# Altium integrated library bldc_controller.IntLib: 38 symbols
Pins are listed as number, name and electrical type; pins without a type are passive.

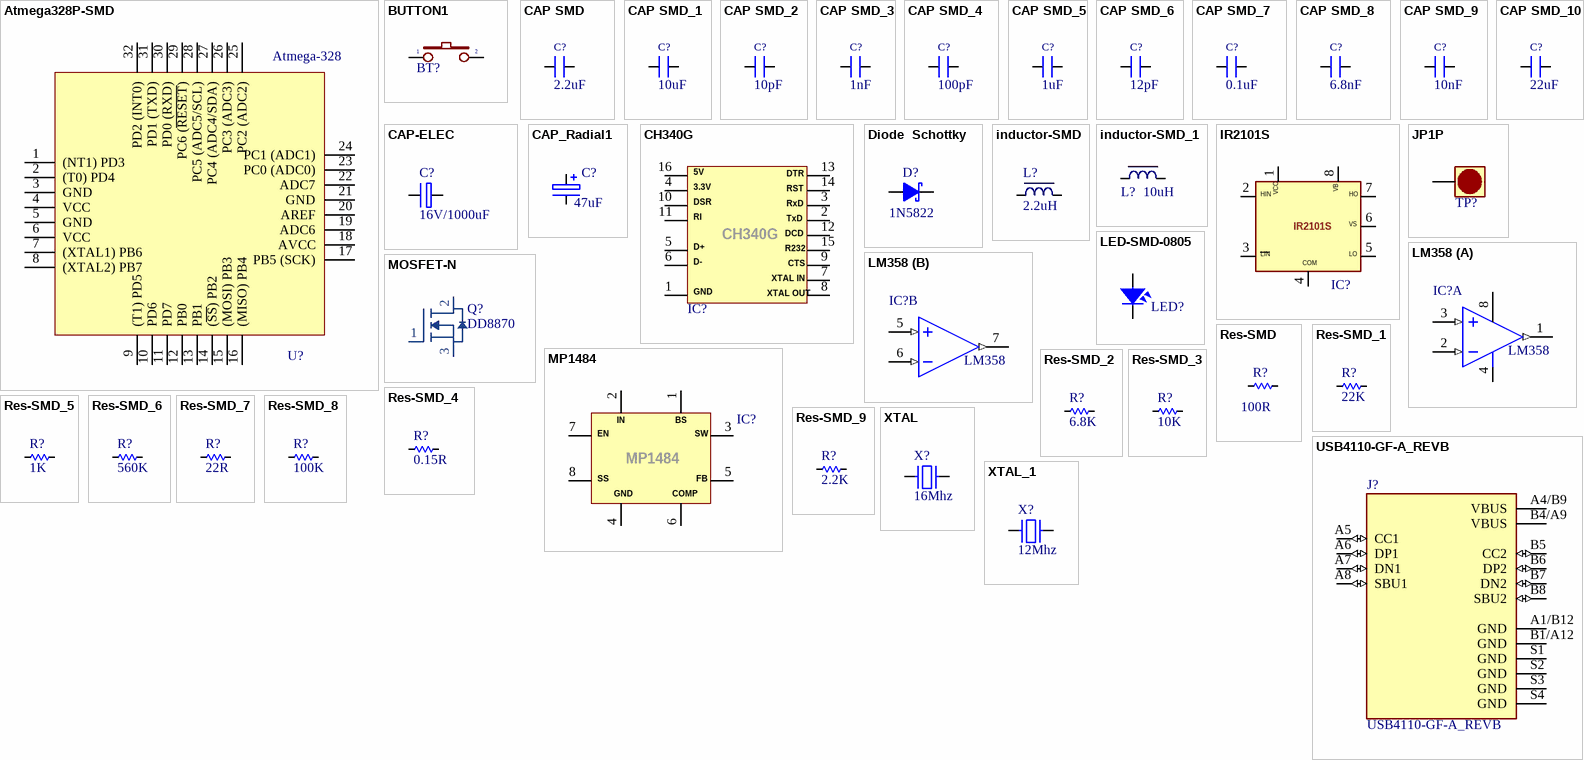
[diagram p0: symbols Atmega328P-SMD to XTAL_1]

## Atmega328P-SMD
designator U?, comment Atmega-328
Atmega328psmd
footprint TQFP32
pins: 1 (NT1) PD3, 2 (T0) PD4, 3 GND, 4 VCC, 5 GND, 6 VCC, 7 (XTAL1) PB6, 8 (XTAL2) PB7, 9 (T1) PD5, 10 PD6, 11 PD7, 12 PB0, 13 PB1, 14 (~{SS}) PB2, 15 (MOSI) PB3, 16 (MISO) PB4, 17 PB5 (SCK), 18 AVCC, 19 ADC6, 20 AREF, 21 GND, 22 ADC7, 23 PC0 (ADC0), 24 PC1 (ADC1), 25 PC2 (ADC2), 26 PC3 (ADC3), 27 PC4 (ADC4/SDA), 28 PC5 (ADC5/SCL), 29 PC6 (~{RESET}), 30 PD0 (RXD), 31 PD1 (TXD), 32 PD2 (INT0)

## BUTTON1
designator BT?  (value not drawn)
Value: 1N4007
footprint sw4-SMD
footprint SW4_SMD (SW SMD button 4pin, 250 x250 mil)
footprint SW4 (SW button 4pin, 250 x250 mil)
footprint SW-SMD - 3x4 (Switch SMD type)
footprint SW-SMD - 3x4x2 (Switch SMD type)
footprint SW-SMD - 3x6x4.3mm (Switch SMD type)
footprint SW-SMD-4.2x3.2x2.5
footprint SW-SMD - 3x6x2.5 (Switch SMD type)
footprint SW_6x6_H
footprint SW_TS24CA
footprint SW_TS24ZJ
footprint SW_THBM02
footprint SW_TS-A004
footprint SW4_SMD 6x6x3.1 (SW SMD button 4pin, 250 x250 mil)
footprint SW3 (SW button 3Pin, 4.5x4.5)
footprint push button 7X3.5X3.5
footprint SW_4.8x4.8x0.55mm
pins: 1, 2

## CAP SMD
designator C?, comment 2.2uF
CAP SMD; Value: 0,1uF/300V; Designed by: VanDungEvn
footprint SM-CAP-0805
footprint SM-Cap-1206
footprint SM-CAP-3225 (Chip Capacitor, Body 3.2x2.5mm, IPC Medium Density)
footprint SM-CAP-0402
footprint SM-CAP-0603
footprint CN-SMD-0402
footprint CN-SMD-0603
footprint CN-SMD-0805
footprint CN-SMD-1206
footprint CN-SMD-2520 (TOKO INDUCTOR DFE252012 SERIES)
footprint CN-SMD-3225 (Chip Capacitor, Body 3.2x2.5mm, IPC Medium Density)
footprint CN-SMD-1210
pins: 1, 2

## CAP SMD_1
designator C?, comment 10uF
CAP SMD; Value: 0,1uF/300V; Designed by: VanDungEvn
footprint SM-CAP-0805
footprint SM-Cap-1206
footprint SM-CAP-3225 (Chip Capacitor, Body 3.2x2.5mm, IPC Medium Density)
footprint SM-CAP-0402
footprint SM-CAP-0603
footprint CN-SMD-0402
footprint CN-SMD-0603
footprint CN-SMD-0805
footprint CN-SMD-1206
footprint CN-SMD-2520 (TOKO INDUCTOR DFE252012 SERIES)
footprint CN-SMD-3225 (Chip Capacitor, Body 3.2x2.5mm, IPC Medium Density)
footprint CN-SMD-1210
pins: 1, 2

## CAP SMD_2
designator C?, comment 10pF
CAP SMD; Value: 0,1uF/300V; Designed by: VanDungEvn
footprint SM-CAP-0805
footprint SM-Cap-1206
footprint SM-CAP-3225 (Chip Capacitor, Body 3.2x2.5mm, IPC Medium Density)
footprint SM-CAP-0402
footprint SM-CAP-0603
footprint CN-SMD-0402
footprint CN-SMD-0603
footprint CN-SMD-0805
footprint CN-SMD-1206
footprint CN-SMD-2520 (TOKO INDUCTOR DFE252012 SERIES)
footprint CN-SMD-3225 (Chip Capacitor, Body 3.2x2.5mm, IPC Medium Density)
footprint CN-SMD-1210
pins: 1, 2

## CAP SMD_3
designator C?, comment 1nF
CAP SMD; Value: 0,1uF/300V; Designed by: VanDungEvn
footprint SM-CAP-0805
footprint SM-Cap-1206
footprint SM-CAP-3225 (Chip Capacitor, Body 3.2x2.5mm, IPC Medium Density)
footprint SM-CAP-0402
footprint SM-CAP-0603
footprint CN-SMD-0402
footprint CN-SMD-0603
footprint CN-SMD-0805
footprint CN-SMD-1206
footprint CN-SMD-2520 (TOKO INDUCTOR DFE252012 SERIES)
footprint CN-SMD-3225 (Chip Capacitor, Body 3.2x2.5mm, IPC Medium Density)
footprint CN-SMD-1210
pins: 1, 2

## CAP SMD_4
designator C?, comment 100pF
CAP SMD; Value: 0,1uF/300V; Designed by: VanDungEvn
footprint SM-CAP-0805
footprint SM-Cap-1206
footprint SM-CAP-3225 (Chip Capacitor, Body 3.2x2.5mm, IPC Medium Density)
footprint SM-CAP-0402
footprint SM-CAP-0603
footprint CN-SMD-0402
footprint CN-SMD-0603
footprint CN-SMD-0805
footprint CN-SMD-1206
footprint CN-SMD-2520 (TOKO INDUCTOR DFE252012 SERIES)
footprint CN-SMD-3225 (Chip Capacitor, Body 3.2x2.5mm, IPC Medium Density)
footprint CN-SMD-1210
pins: 1, 2

## CAP SMD_5
designator C?, comment 1uF
CAP SMD; Value: 0,1uF/300V; Designed by: VanDungEvn
footprint SM-CAP-0805
footprint SM-Cap-1206
footprint SM-CAP-3225 (Chip Capacitor, Body 3.2x2.5mm, IPC Medium Density)
footprint SM-CAP-0402
footprint SM-CAP-0603
footprint CN-SMD-0402
footprint CN-SMD-0603
footprint CN-SMD-0805
footprint CN-SMD-1206
footprint CN-SMD-2520 (TOKO INDUCTOR DFE252012 SERIES)
footprint CN-SMD-3225 (Chip Capacitor, Body 3.2x2.5mm, IPC Medium Density)
footprint CN-SMD-1210
pins: 1, 2

## CAP SMD_6
designator C?, comment 12pF
CAP SMD; Value: 0,1uF/300V; Designed by: VanDungEvn
footprint SM-CAP-0805
footprint SM-Cap-1206
footprint SM-CAP-3225 (Chip Capacitor, Body 3.2x2.5mm, IPC Medium Density)
footprint SM-CAP-0402
footprint SM-CAP-0603
footprint CN-SMD-0402
footprint CN-SMD-0603
footprint CN-SMD-0805
footprint CN-SMD-1206
footprint CN-SMD-2520 (TOKO INDUCTOR DFE252012 SERIES)
footprint CN-SMD-3225 (Chip Capacitor, Body 3.2x2.5mm, IPC Medium Density)
footprint CN-SMD-1210
pins: 1, 2

## CAP SMD_7
designator C?, comment 0.1uF
CAP SMD; Value: 0,1uF/300V; Designed by: VanDungEvn
footprint SM-CAP-0805
footprint SM-Cap-1206
footprint SM-CAP-3225 (Chip Capacitor, Body 3.2x2.5mm, IPC Medium Density)
footprint SM-CAP-0402
footprint SM-CAP-0603
footprint CN-SMD-0402
footprint CN-SMD-0603
footprint CN-SMD-0805
footprint CN-SMD-1206
footprint CN-SMD-2520 (TOKO INDUCTOR DFE252012 SERIES)
footprint CN-SMD-3225 (Chip Capacitor, Body 3.2x2.5mm, IPC Medium Density)
footprint CN-SMD-1210
pins: 1, 2

## CAP SMD_8
designator C?, comment 6.8nF
CAP SMD; Value: 0,1uF/300V; Designed by: VanDungEvn
footprint SM-CAP-0805
footprint SM-Cap-1206
footprint SM-CAP-3225 (Chip Capacitor, Body 3.2x2.5mm, IPC Medium Density)
footprint SM-CAP-0402
footprint SM-CAP-0603
footprint CN-SMD-0402
footprint CN-SMD-0603
footprint CN-SMD-0805
footprint CN-SMD-1206
footprint CN-SMD-2520 (TOKO INDUCTOR DFE252012 SERIES)
footprint CN-SMD-3225 (Chip Capacitor, Body 3.2x2.5mm, IPC Medium Density)
footprint CN-SMD-1210
pins: 1, 2

## CAP SMD_9
designator C?, comment 10nF
CAP SMD; Value: 0,1uF/300V; Designed by: VanDungEvn
footprint SM-CAP-0805
footprint SM-Cap-1206
footprint SM-CAP-3225 (Chip Capacitor, Body 3.2x2.5mm, IPC Medium Density)
footprint SM-CAP-0402
footprint SM-CAP-0603
footprint CN-SMD-0402
footprint CN-SMD-0603
footprint CN-SMD-0805
footprint CN-SMD-1206
footprint CN-SMD-2520 (TOKO INDUCTOR DFE252012 SERIES)
footprint CN-SMD-3225 (Chip Capacitor, Body 3.2x2.5mm, IPC Medium Density)
footprint CN-SMD-1210
pins: 1, 2

## CAP SMD_10
designator C?, comment 22uF
CAP SMD; Value: 0,1uF/300V; Designed by: VanDungEvn
footprint SM-CAP-0805
footprint SM-Cap-1206
footprint SM-CAP-3225 (Chip Capacitor, Body 3.2x2.5mm, IPC Medium Density)
footprint SM-CAP-0402
footprint SM-CAP-0603
footprint CN-SMD-0402
footprint CN-SMD-0603
footprint CN-SMD-0805
footprint CN-SMD-1206
footprint CN-SMD-2520 (TOKO INDUCTOR DFE252012 SERIES)
footprint CN-SMD-3225 (Chip Capacitor, Body 3.2x2.5mm, IPC Medium Density)
footprint CN-SMD-1210
pins: 1, 2

## CAP-ELEC
designator C?, comment 16V/1000uF
footprint CAP-5MM
footprint CAP-2.54MM
footprint CAP-8MM
footprint CAP-8MM_HORIZONTAL
pins: 1, 2

## CAP_Radial1
designator C?, comment 47uF
CAP_Radial1
footprint CP1/2
footprint CP2/4 (Tu hoa 1000uF/16V/25V)
footprint CP3/7 (Tu hoa 4700uF/25V)
footprint CP4.5/19 (Tu hoa 10,000uF/63V)
footprint CP4/12 (Tu hoa 220uF/450V)
footprint CP4/8.5 (Tu hoa 4700uF/50V)
footprint cap_A_SMD 10uF/16V
footprint CAP_A_SMD 470
footprint cap_A_SMD 470uF/16V
footprint CP1/2.5 (Tu hoa 33 >100 uF,50V, 220uF/16V,25V)
footprint CP1.5/3.4 (Tu hoa 220->470uF,16V, 470uF/16V,25V)
pins: 1, 2
1 alternate drawing of the same symbol

## CH340G
designator IC?  (value not drawn)
footprint SOIC-16
pins: 1, 2, 3, 4, 5, 6, 7, 8, 9, 10, 11, 12, 13, 14, 15, 16
text: 5V; DTR; 3.3V; RST; DSR; RxD; RI; TxD; DCD; D+; R232; D-; CTS; XTAL IN; GND; XTAL OUT

## Diode  Schottky
designator D?, comment 1N5822
Diode  Schottky; Value: 1N4007
footprint D2A (Diode 2A, W 150mil, L 450mil); pin to pad A>1 K>2
footprint D2AN (Diode 2A, W 150mil, L 450mil); pin to pad A>1 K>2
footprint DIODE/POW/1A; pin to pad A>1 K>2
footprint DO41-1A (Diode 1A, W 100mil, L 350mil); pin to pad A>1 K>2
footprint DO-213AA
footprint DO-214AC(SMA); pin to pad A>1 K>2
footprint SOD-323 (diode T4-SOD232); pin to pad A>1 K>2
footprint SOD-123; pin to pad A>1 K>2
pins: A, K

## inductor-SMD
designator L?, comment 2.2uH
inductor-SMD; Value: 150 mH
footprint L-SMD-CD104R-10x4 (WE-PDA SMD Shielded Power Inductor, 7345)
footprint L-SMD-CD74R-7.3x4.5 (WE-PDA SMD Shielded Power Inductor, 7345)
footprint L-SMD-CDRH127-M-12x7 (WE-PDA SMD Shielded Power Inductor, 1210)
footprint IN-SMD-0402
footprint IN-SMD-0603
footprint IN-SMD-0805
footprint L-SMD-06030-7.4x6.6X3
footprint CD32
footprint CD43
footprint CD54
footprint IN-SMD-2010
footprint IN-SMD-1210
footprint IN-SMD-1206
footprint IN-SMD-0302
footprint CD32 - type 2
pins: 1, 2

## inductor-SMD_1
designator L?, comment 10uH
inductor-SMD; Value: 150 mH
footprint L-SMD-CD104R-10x4 (WE-PDA SMD Shielded Power Inductor, 7345)
footprint L-SMD-CD74R-7.3x4.5 (WE-PDA SMD Shielded Power Inductor, 7345)
footprint L-SMD-CDRH127-M-12x7 (WE-PDA SMD Shielded Power Inductor, 1210)
footprint IN-SMD-0402
footprint IN-SMD-0603
footprint IN-SMD-0805
footprint L-SMD-06030-7.4x6.6X3
footprint CD32
footprint CD43
footprint CD54
footprint IN-SMD-2010
footprint IN-SMD-1210
footprint IN-SMD-1206
footprint IN-SMD-0302
footprint CD32 - type 2
pins: 1, 2

## IR2101S
designator IC?  (value not drawn)
footprint SOIC-8
pins: 1, 2, 3, 4, 5, 6, 7, 8
text: VB; HIN; VCC; HO; VS; LIN; LO; COM

## JP1P
designator TP?  (value not drawn)
footprint PW-JP
pins: 1

## LED-SMD-0805
designator LED?, comment LED SMD  (value not drawn)
footprint SM-LED-0805-Blue
footprint SM-LED-0805-Green
footprint SM-LED-0805-Orange
footprint SM-LED-0805-Red
footprint SM-LED-0805-Yellow
pins: 1, 2

## LM358
designator IC?
Low-Power Dual Operational Amplifier; Value: LM358
footprint DIP8
footprint SO8
part A pins: 1 OUT (out), 2 IN- (in), 3 IN+ (in), 4 -V, 8 +V
part B pins: 5 IN+ (in), 6 IN- (in), 7 OUT (out)

## MOSFET-N
designator Q?, comment DD8870
MOSFET N chane
footprint SOT23-3
footprint TO-252
pins: 1, 2, 3

## MP1484
designator IC?  (value not drawn)
3A, 18V, 340KHz Synchronous Rectified / Step-Down Converter
footprint SOIC-8
pins: 1, 2, 3, 4, 5, 6, 7, 8
text: IN; BS; EN; SW; SS; FB; GND; COMP

## Res-SMD
designator R?, comment 100R
Resistor; Manufacturer: Generic Components; Class: Passive; Published: 08/06/2000; Publisher: Altium Hobart Technology Centre
footprint RES-SMD-0101
footprint RES-SMD-0201
footprint RES-SMD-0603
footprint RES-SMD-0805
footprint RES-SMD-1206
footprint RES-SMD-1210 (Chip Capacitor, Body 3.2x2.5mm, IPC Medium Density)
footprint RES-SMD-1812 (Chip Capacitor, Body 3.2x2.5mm, IPC Medium Density)
footprint RES-SMD-2010 (Chip Capacitor, Body 3.2x2.5mm, IPC Medium Density)
footprint RES-SMD-2512 (Chip Capacitor, Body 3.2x2.5mm, IPC Medium Density)
footprint RES-SMD-0402
pins: 1, 2

## Res-SMD_1
designator R?, comment 22K
Resistor; Manufacturer: Generic Components; Class: Passive; Published: 08/06/2000; Publisher: Altium Hobart Technology Centre
footprint RES-SMD-0101
footprint RES-SMD-0201
footprint RES-SMD-0603
footprint RES-SMD-0805
footprint RES-SMD-1206
footprint RES-SMD-1210 (Chip Capacitor, Body 3.2x2.5mm, IPC Medium Density)
footprint RES-SMD-1812 (Chip Capacitor, Body 3.2x2.5mm, IPC Medium Density)
footprint RES-SMD-2010 (Chip Capacitor, Body 3.2x2.5mm, IPC Medium Density)
footprint RES-SMD-2512 (Chip Capacitor, Body 3.2x2.5mm, IPC Medium Density)
footprint RES-SMD-0402
pins: 1, 2

## Res-SMD_2
designator R?, comment 6.8K
Resistor; Manufacturer: Generic Components; Class: Passive; Published: 08/06/2000; Publisher: Altium Hobart Technology Centre
footprint RES-SMD-0101
footprint RES-SMD-0201
footprint RES-SMD-0603
footprint RES-SMD-0805
footprint RES-SMD-1206
footprint RES-SMD-1210 (Chip Capacitor, Body 3.2x2.5mm, IPC Medium Density)
footprint RES-SMD-1812 (Chip Capacitor, Body 3.2x2.5mm, IPC Medium Density)
footprint RES-SMD-2010 (Chip Capacitor, Body 3.2x2.5mm, IPC Medium Density)
footprint RES-SMD-2512 (Chip Capacitor, Body 3.2x2.5mm, IPC Medium Density)
footprint RES-SMD-0402
pins: 1, 2

## Res-SMD_3
designator R?, comment 10K
Resistor; Manufacturer: Generic Components; Class: Passive; Published: 08/06/2000; Publisher: Altium Hobart Technology Centre
footprint RES-SMD-0101
footprint RES-SMD-0201
footprint RES-SMD-0603
footprint RES-SMD-0805
footprint RES-SMD-1206
footprint RES-SMD-1210 (Chip Capacitor, Body 3.2x2.5mm, IPC Medium Density)
footprint RES-SMD-1812 (Chip Capacitor, Body 3.2x2.5mm, IPC Medium Density)
footprint RES-SMD-2010 (Chip Capacitor, Body 3.2x2.5mm, IPC Medium Density)
footprint RES-SMD-2512 (Chip Capacitor, Body 3.2x2.5mm, IPC Medium Density)
footprint RES-SMD-0402
pins: 1, 2

## Res-SMD_4
designator R?, comment 0.15R
Resistor; Manufacturer: Generic Components; Class: Passive; Published: 08/06/2000; Publisher: Altium Hobart Technology Centre
footprint RES-SMD-0101
footprint RES-SMD-0201
footprint RES-SMD-0603
footprint RES-SMD-0805
footprint RES-SMD-1206
footprint RES-SMD-1210 (Chip Capacitor, Body 3.2x2.5mm, IPC Medium Density)
footprint RES-SMD-1812 (Chip Capacitor, Body 3.2x2.5mm, IPC Medium Density)
footprint RES-SMD-2010 (Chip Capacitor, Body 3.2x2.5mm, IPC Medium Density)
footprint RES-SMD-2512 (Chip Capacitor, Body 3.2x2.5mm, IPC Medium Density)
footprint RES-SMD-0402
pins: 1, 2

## Res-SMD_5
designator R?, comment 1K
Resistor; Manufacturer: Generic Components; Class: Passive; Published: 08/06/2000; Publisher: Altium Hobart Technology Centre
footprint RES-SMD-0101
footprint RES-SMD-0201
footprint RES-SMD-0603
footprint RES-SMD-0805
footprint RES-SMD-1206
footprint RES-SMD-1210 (Chip Capacitor, Body 3.2x2.5mm, IPC Medium Density)
footprint RES-SMD-1812 (Chip Capacitor, Body 3.2x2.5mm, IPC Medium Density)
footprint RES-SMD-2010 (Chip Capacitor, Body 3.2x2.5mm, IPC Medium Density)
footprint RES-SMD-2512 (Chip Capacitor, Body 3.2x2.5mm, IPC Medium Density)
footprint RES-SMD-0402
pins: 1, 2

## Res-SMD_6
designator R?, comment 560K
Resistor; Manufacturer: Generic Components; Class: Passive; Published: 08/06/2000; Publisher: Altium Hobart Technology Centre
footprint RES-SMD-0101
footprint RES-SMD-0201
footprint RES-SMD-0603
footprint RES-SMD-0805
footprint RES-SMD-1206
footprint RES-SMD-1210 (Chip Capacitor, Body 3.2x2.5mm, IPC Medium Density)
footprint RES-SMD-1812 (Chip Capacitor, Body 3.2x2.5mm, IPC Medium Density)
footprint RES-SMD-2010 (Chip Capacitor, Body 3.2x2.5mm, IPC Medium Density)
footprint RES-SMD-2512 (Chip Capacitor, Body 3.2x2.5mm, IPC Medium Density)
footprint RES-SMD-0402
pins: 1, 2

## Res-SMD_7
designator R?, comment 22R
Resistor; Manufacturer: Generic Components; Class: Passive; Published: 08/06/2000; Publisher: Altium Hobart Technology Centre
footprint RES-SMD-0101
footprint RES-SMD-0201
footprint RES-SMD-0603
footprint RES-SMD-0805
footprint RES-SMD-1206
footprint RES-SMD-1210 (Chip Capacitor, Body 3.2x2.5mm, IPC Medium Density)
footprint RES-SMD-1812 (Chip Capacitor, Body 3.2x2.5mm, IPC Medium Density)
footprint RES-SMD-2010 (Chip Capacitor, Body 3.2x2.5mm, IPC Medium Density)
footprint RES-SMD-2512 (Chip Capacitor, Body 3.2x2.5mm, IPC Medium Density)
footprint RES-SMD-0402
pins: 1, 2

## Res-SMD_8
designator R?, comment 100K
Resistor; Manufacturer: Generic Components; Class: Passive; Published: 08/06/2000; Publisher: Altium Hobart Technology Centre
footprint RES-SMD-0101
footprint RES-SMD-0201
footprint RES-SMD-0603
footprint RES-SMD-0805
footprint RES-SMD-1206
footprint RES-SMD-1210 (Chip Capacitor, Body 3.2x2.5mm, IPC Medium Density)
footprint RES-SMD-1812 (Chip Capacitor, Body 3.2x2.5mm, IPC Medium Density)
footprint RES-SMD-2010 (Chip Capacitor, Body 3.2x2.5mm, IPC Medium Density)
footprint RES-SMD-2512 (Chip Capacitor, Body 3.2x2.5mm, IPC Medium Density)
footprint RES-SMD-0402
pins: 1, 2

## Res-SMD_9
designator R?, comment 2.2K
Resistor; Manufacturer: Generic Components; Class: Passive; Published: 08/06/2000; Publisher: Altium Hobart Technology Centre
footprint RES-SMD-0101
footprint RES-SMD-0201
footprint RES-SMD-0603
footprint RES-SMD-0805
footprint RES-SMD-1206
footprint RES-SMD-1210 (Chip Capacitor, Body 3.2x2.5mm, IPC Medium Density)
footprint RES-SMD-1812 (Chip Capacitor, Body 3.2x2.5mm, IPC Medium Density)
footprint RES-SMD-2010 (Chip Capacitor, Body 3.2x2.5mm, IPC Medium Density)
footprint RES-SMD-2512 (Chip Capacitor, Body 3.2x2.5mm, IPC Medium Density)
footprint RES-SMD-0402
pins: 1, 2

## USB4110-GF-A_REVB
designator J?
USB-C (USB TYPE-C) USB 2.0 Receptacle Connector 24 (16+8 Dummy) Position Surface Mount, Right Angle; Through Hole; MF: GCT; Value: *; Price: None; Package: None; SnapEDA_Link: https://www.snapeda.com/parts/USB4110-GF-A/Global%20Connector%20Technology/view-part/4001167/?ref=snap; Availability: Warning; MP: USB4110-GF-A; Purchase-URL: https://pricing.snapeda.com/search/part/USB4110-GF-A/?ref=eda; Check_prices: https://www.snapeda.com/parts/USB4110-GF-A/Global%20Connector%20Technology/view-part/4001167/?ref=eda
footprint GCT_USB4110-GF-A_REVB
footprint GCT_USB4105-GF-A
pins: A1/B12 GND (power), A4/B9 VBUS (power), A5 CC1 (io), A6 DP1 (io), A7 DN1 (io), A8 SBU1 (io), B1/A12 GND (power), B4/A9 VBUS (power), B5 CC2 (io), B6 DP2 (io), B7 DN2 (io), B8 SBU2 (io), S1 GND (power), S2 GND (power), S3 GND (power), S4 GND (power)

## XTAL
designator X?, comment 16Mhz
crystal; Value: 4Mhz
footprint XTAL-49S/SMD
footprint XT-49S/DIP (Footpin for Crystal 2 pin)
footprint XT2 SMD 3215
footprint XTAL_3215
footprint XTAL_DIP_3x8mm
footprint XTAL-M49S/SMD
pins: 1, 2

## XTAL_1
designator X?, comment 12Mhz
crystal; Value: 4Mhz
footprint XTAL-49S/SMD
footprint XT-49S/DIP (Footpin for Crystal 2 pin)
footprint XT2 SMD 3215
footprint XTAL_3215
footprint XTAL_DIP_3x8mm
footprint XTAL-M49S/SMD
pins: 1, 2